# EAGLE library part SN74LVCH16T245 (library texasinstruments-levelshifters)
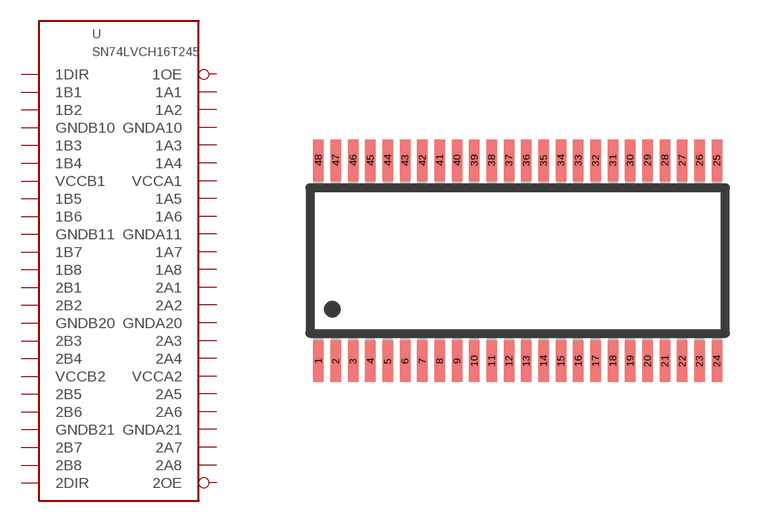
[diagram p0: symbol with the pads of TSSOP48; footprint TSSOP48]

Designator prefix -

## SN74LVCH16T245  [TSSOP48]
1  1DIR
2  1B1
3  1B2
4  GNDB10
5  1B3
6  1B4
7  VCCB1
8  1B5
9  1B6
10  GNDB11
11  1B7
12  1B8
13  2B1
14  2B2
15  GNDB20
16  2B3
17  2B4
18  VCCB2
19  2B5
20  2B6
21  GNDB21
22  2B7
23  2B8
24  2DIR
25  2OE
26  2A8
27  2A7
28  GNDA21
29  2A6
30  2A5
31  VCCA2
32  2A4
33  2A3
34  GNDA20
35  2A2
36  2A1
37  1A8
38  1A7
39  GNDA11
40  1A6
41  1A5
42  VCCA1
43  1A4
44  1A3
45  GNDA10
46  1A2
47  1A1
48  1OE

## Footprint TSSOP48 (pad centres in mm)
smd 0.3 x 1.2: 1 -4.5,-2.9; 2 -4,-2.9; 3 -3.5,-2.9; 4 -3,-2.9; 5 -2.5,-2.9; 6 -2,-2.9; 7 -1.5,-2.9; 8 -1,-2.9; 9 -0.5,-2.9; 10 0,-2.9; 11 0.5,-2.9; 12 1,-2.9; 13 1.5,-2.9; 14 2,-2.9; 15 2.5,-2.9; 16 3,-2.9; 17 3.5,-2.9; 18 4,-2.9; 19 4.5,-2.9; 20 5,-2.9; 21 5.5,-2.9; 22 6,-2.9; 23 6.5,-2.9; 24 7,-2.9; 25 7,2.9; 26 6.5,2.9; 27 6,2.9; 28 5.5,2.9; 29 5,2.9; 30 4.5,2.9; 31 4,2.9; 32 3.5,2.9; 33 3,2.9; 34 2.5,2.9; 35 2,2.9; 36 1.5,2.9; 37 1,2.9; 38 0.5,2.9; 39 0,2.9; 40 -0.5,2.9; 41 -1,2.9; 42 -1.5,2.9; 43 -2,2.9; 44 -2.5,2.9; 45 -3,2.9; 46 -3.5,2.9; 47 -4,2.9; 48 -4.5,2.9